# Altium footprint library Inductor_SMD.PcbLib: 259 footprints (part 14 of 17)
Each footprint in its own frame and in the unit in brackets; x right, y up, seen from the top. Pads: shape width x height; smd on the part's side, far side on the other; paste and mask are expansions set on the pad; w line width, h text height; cw(c..) or ccw(c..) is an arc to the next point about the centre after c.
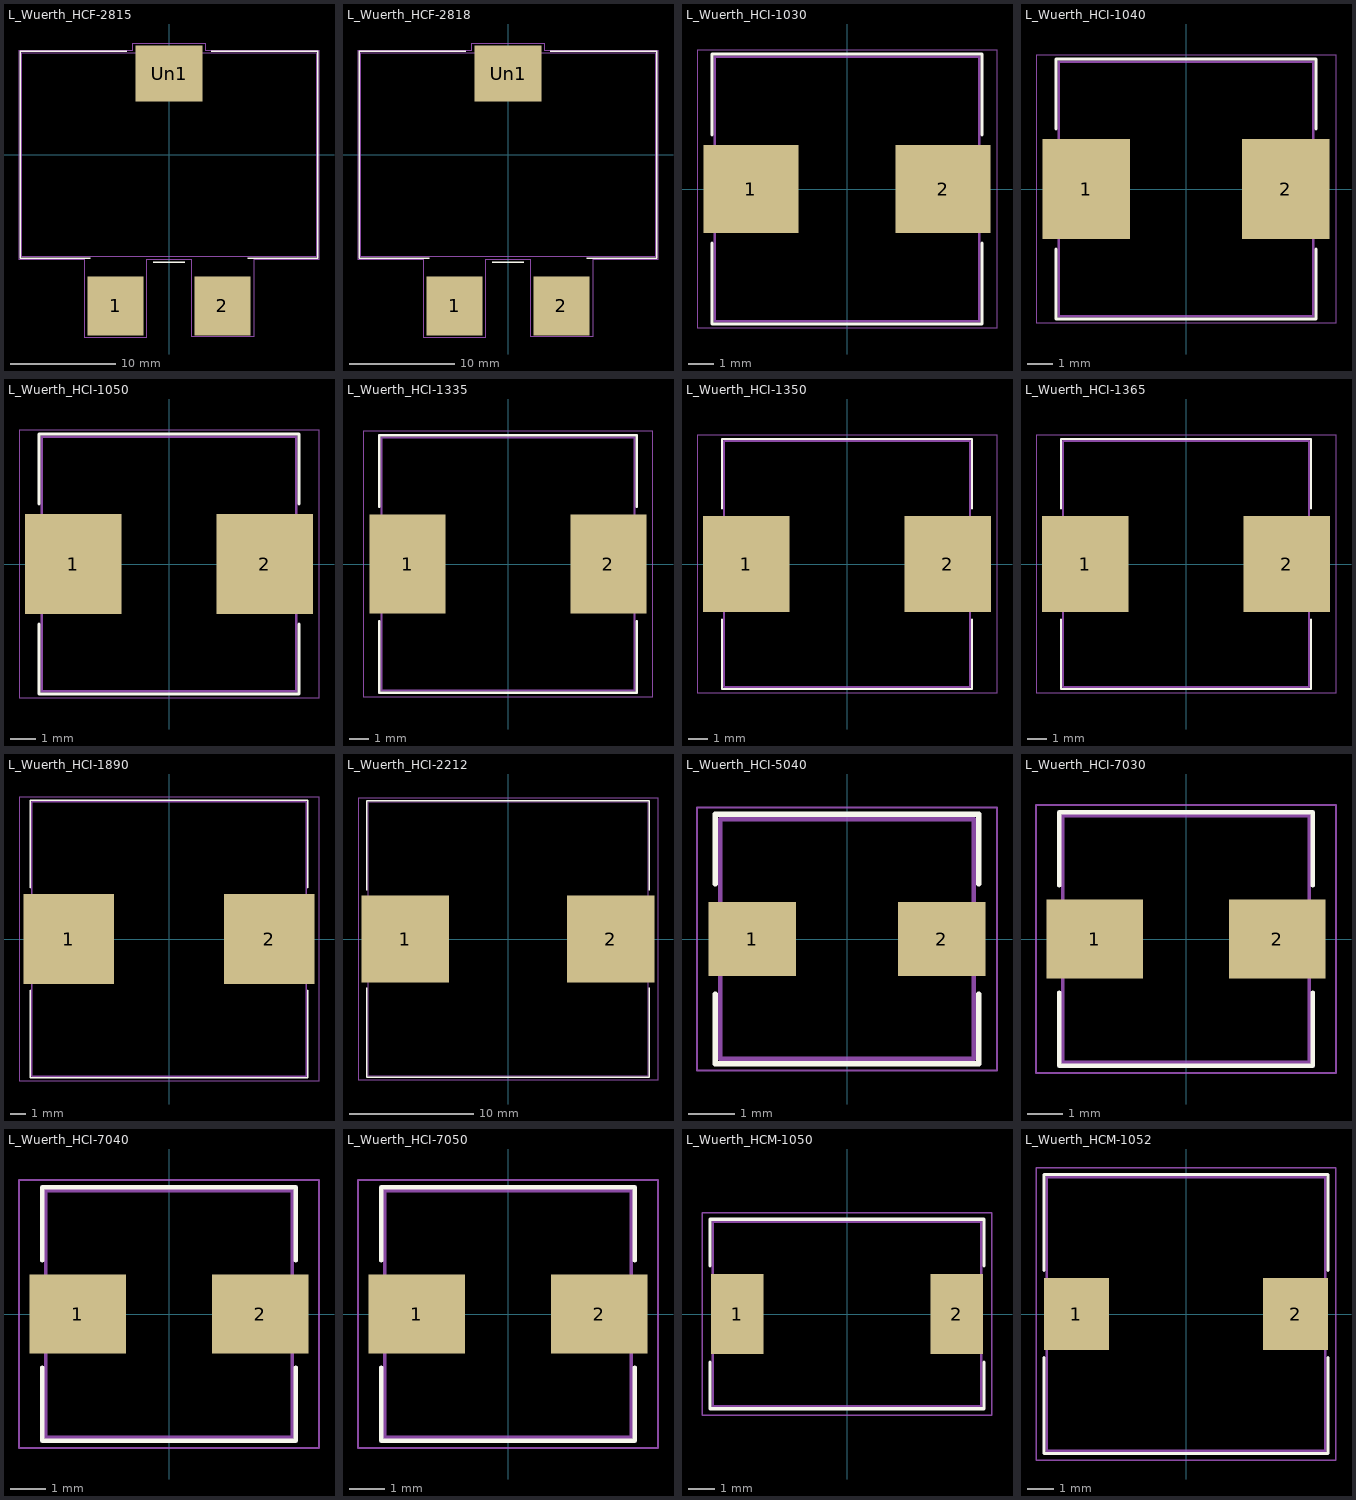
[diagram p13: the footprints below, top view; thin cyan lines are the x and y axes]

## L_Wuerth_HCF-2815 [mm]
pads (3):
  rect 5.33x5.59 smd: 1(-5.075,-14.355) 2(5.075,-14.355)
  rect 6.36x5.28 smd: Un1(0,7.72)
F.SilkS:
  lines w0.12: -7.5,-9.85 -14.15,-9.85 -14.15,9.85 -4,9.85 ; -1.5,-10.2 1.5,-10.2 ; 4,9.85 14.15,9.85 14.15,-9.85 7.5,-9.85
F.CrtYd:
  lines w0.05: -14.25,-9.95 -14.25,9.95 -3.43,9.95 -3.43,10.61 3.43,10.61 3.43,9.95 14.25,9.95 14.25,-9.95 8.05,-9.95 8.05,-17.3 2.15,-17.3 2.15,-9.95 -2.16,-9.95 -2.16,-17.4 -8,-17.4 -8,-9.95 -14.25,-9.95
F.Fab:
  lines w0.1: -14,-9.7 -14,9.7 14,9.7 14,-9.7 -14,-9.7
  text "'.Designator'" at -4.047,-2.84 h1

## L_Wuerth_HCF-2818 [mm]
pads (3):
  rect 5.33x5.59 smd: 1(-5.075,-14.355) 2(5.075,-14.355)
  rect 6.36x5.28 smd: Un1(0,7.72)
F.SilkS:
  lines w0.12: -7.5,-9.85 -14.15,-9.85 -14.15,9.85 -4,9.85 ; -1.5,-10.2 1.5,-10.2 ; 4,9.85 14.15,9.85 14.15,-9.85 7.5,-9.85
F.CrtYd:
  lines w0.05: -14.25,-9.95 -8,-9.95 -8,-17.4 -2.16,-17.4 -2.16,-9.95 2.15,-9.95 2.15,-17.3 8.05,-17.3 8.05,-9.95 14.25,-9.95 14.25,9.95 3.43,9.95 3.43,10.61 -3.43,10.61 -3.43,9.95 -14.25,9.95 -14.25,-9.95
F.Fab:
  lines w0.1: -14,-9.7 14,-9.7 14,9.7 -14,9.7 -14,-9.7
  text "'.Designator'" at -4.047,-2.84 h1

## L_Wuerth_HCI-1030 [mm]
pads (2):
  rect 3.8x3.5 smd: 1(-3.85,0) 2(3.85,0)
F.SilkS:
  lines w0.12: -5.4,-2.15 -5.4,-5.4 5.4,-5.4 5.4,-2.15 ; -5.4,2.15 -5.4,5.4 5.4,5.4 5.4,2.15
F.CrtYd:
  lines w0.05: -6,-5.55 -6,5.55 6,5.55 6,-5.55 -6,-5.55
F.Fab:
  lines w0.1: -5.3,-5.3 5.3,-5.3 5.3,5.3 -5.3,5.3 -5.3,-5.3
  text "'.Designator'" at -4.047,-0.84 h1

## L_Wuerth_HCI-1040 [mm]
pads (2):
  rect 3.5x4 smd: 1(-4,0) 2(4,0)
F.SilkS:
  lines w0.12: -5.2,-2.4 -5.2,-5.2 5.2,-5.2 5.2,-2.4 ; -5.2,2.4 -5.2,5.2 5.2,5.2 5.2,2.4
F.CrtYd:
  lines w0.05: -6,-5.35 -6,5.35 6,5.35 6,-5.35 -6,-5.35
F.Fab:
  lines w0.1: -5.1,-5.1 5.1,-5.1 5.1,5.1 -5.1,5.1 -5.1,-5.1
  text "'.Designator'" at -4.047,-0.84 h1

## L_Wuerth_HCI-1050 [mm]
pads (2):
  rect 3.85x4 smd: 1(-3.825,0) 2(3.825,0)
F.SilkS:
  lines w0.12: -5.2,-2.4 -5.2,-5.2 5.2,-5.2 5.2,-2.4 ; -5.2,2.4 -5.2,5.2 5.2,5.2 5.2,2.4
F.CrtYd:
  lines w0.05: -6,-5.35 -6,5.35 6,5.35 6,-5.35 -6,-5.35
F.Fab:
  lines w0.1: -5.1,-5.1 -5.1,5.1 5.1,5.1 5.1,-5.1 -5.1,-5.1
  text "'.Designator'" at -4.047,-0.84 h1

## L_Wuerth_HCI-1335 [mm]
pads (2):
  rect 3.85x5 smd: 1(-5.075,0) 2(5.075,0)
F.SilkS:
  lines w0.12: -6.5,-2.9 -6.5,-6.5 6.5,-6.5 6.5,-2.9 ; -6.5,2.9 -6.5,6.5 6.5,6.5 6.5,2.9
F.CrtYd:
  lines w0.05: -7.3,-6.7 7.3,-6.7 7.3,6.7 -7.3,6.7 -7.3,-6.7
F.Fab:
  lines w0.1: -6.4,-6.4 6.4,-6.4 6.4,6.4 -6.4,6.4 -6.4,-6.4
  text "'.Designator'" at -4.047,-0.84 h1

## L_Wuerth_HCI-1350 [mm]
pads (2):
  rect 4.5x5 smd: 1(-5.25,0) 2(5.25,0)
F.SilkS:
  lines w0.12: -6.5,-2.9 -6.5,-6.5 6.5,-6.5 6.5,-2.9 ; -6.5,2.9 -6.5,6.5 6.5,6.5 6.5,2.9
F.CrtYd:
  lines w0.05: -7.8,-6.7 7.8,-6.7 7.8,6.7 -7.8,6.7 -7.8,-6.7
F.Fab:
  lines w0.1: -6.4,-6.4 -6.4,6.4 6.4,6.4 6.4,-6.4 -6.4,-6.4
  text "'.Designator'" at -4.047,-0.84 h1

## L_Wuerth_HCI-1365 [mm]
pads (2):
  rect 4.5x5 smd: 1(-5.25,0) 2(5.25,0)
F.SilkS:
  lines w0.12: -6.5,-2.9 -6.5,-6.5 6.5,-6.5 6.5,-2.9 ; -6.5,2.9 -6.5,6.5 6.5,6.5 6.5,2.9
F.CrtYd:
  lines w0.05: -7.8,-6.7 7.8,-6.7 7.8,6.7 -7.8,6.7 -7.8,-6.7
F.Fab:
  lines w0.1: -6.4,-6.4 6.4,-6.4 6.4,6.4 -6.4,6.4 -6.4,-6.4
  text "'.Designator'" at -4.047,-0.84 h1

## L_Wuerth_HCI-1890 [mm]
pads (2):
  rect 6x6 smd: 1(-6.65,0) 2(6.65,0)
F.SilkS:
  lines w0.12: -9.2,-3.4 -9.2,-9.2 9.2,-9.2 9.2,-3.4 ; -9.2,3.4 -9.2,9.2 9.2,9.2 9.2,3.4
F.CrtYd:
  lines w0.05: -9.95,-9.4 -9.95,9.4 9.95,9.4 9.95,-9.4 -9.95,-9.4
F.Fab:
  lines w0.1: -9.1,-9.1 -9.1,9.1 9.1,9.1 9.1,-9.1 -9.1,-9.1
  text "'.Designator'" at -4.047,-0.84 h1

## L_Wuerth_HCI-2212 [mm]
pads (2):
  rect 7x7 smd: 1(-8.25,0) 2(8.25,0)
F.SilkS:
  lines w0.12: -11.35,-3.9 -11.35,-11.1 11.35,-11.1 11.35,-3.9 ; -11.35,3.9 -11.35,11.1 11.35,11.1 11.35,3.9
F.CrtYd:
  lines w0.05: -12.05,-11.3 12.05,-11.3 12.05,11.3 -12.05,11.3 -12.05,-11.3
F.Fab:
  lines w0.1: -11.25,-11 11.25,-11 11.25,11 -11.25,11 -11.25,-11
  text "'.Designator'" at -4.047,-0.84 h1

## L_Wuerth_HCI-5040 [mm]
pads (2):
  rect 1.9x1.6 smd: 1(-2.05,0) 2(2.05,0)
F.SilkS:
  lines w0.12: -2.85,-1.2 -2.85,-2.7 2.85,-2.7 2.85,-1.2 ; -2.85,1.2 -2.85,2.7 2.85,2.7 2.85,1.2
F.CrtYd:
  lines w0.05: -3.25,-2.85 3.25,-2.85 3.25,2.85 -3.25,2.85 -3.25,-2.85
F.Fab:
  lines w0.1: -2.75,-2.6 2.75,-2.6 2.75,2.6 -2.75,2.6 -2.75,-2.6
  text "'.Designator'" at -4.047,-0.84 h1

## L_Wuerth_HCI-7030 [mm]
pads (2):
  rect 2.7x2.2 smd: 1(-2.55,0) 2(2.55,0)
F.SilkS:
  lines w0.12: -3.55,-1.5 -3.55,-3.55 3.55,-3.55 3.55,-1.5 ; -3.55,1.5 -3.55,3.55 3.55,3.55 3.55,1.5
F.CrtYd:
  lines w0.05: -4.2,-3.75 4.2,-3.75 4.2,3.75 -4.2,3.75 -4.2,-3.75
F.Fab:
  lines w0.1: -3.45,-3.45 -3.45,3.45 3.45,3.45 3.45,-3.45 -3.45,-3.45
  text "'.Designator'" at -4.047,-0.84 h1

## L_Wuerth_HCI-7040 [mm]
pads (2):
  rect 2.7x2.2 smd: 1(-2.55,0) 2(2.55,0)
F.SilkS:
  lines w0.12: -3.55,-1.5 -3.55,-3.55 3.55,-3.55 3.55,-1.5 ; -3.55,1.5 -3.55,3.55 3.55,3.55 3.55,1.5
F.CrtYd:
  lines w0.05: -4.2,-3.75 -4.2,3.75 4.2,3.75 4.2,-3.75 -4.2,-3.75
F.Fab:
  lines w0.1: -3.45,-3.45 3.45,-3.45 3.45,3.45 -3.45,3.45 -3.45,-3.45
  text "'.Designator'" at -4.047,-0.84 h1

## L_Wuerth_HCI-7050 [mm]
pads (2):
  rect 2.7x2.2 smd: 1(-2.55,0) 2(2.55,0)
F.SilkS:
  lines w0.12: -3.55,-1.5 -3.55,-3.55 3.55,-3.55 3.55,-1.5 ; -3.55,1.5 -3.55,3.55 3.55,3.55 3.55,1.5
F.CrtYd:
  lines w0.05: -4.2,-3.75 -4.2,3.75 4.2,3.75 4.2,-3.75 -4.2,-3.75
F.Fab:
  lines w0.1: -3.45,-3.45 3.45,-3.45 3.45,3.45 -3.45,3.45 -3.45,-3.45
  text "'.Designator'" at -4.047,-0.84 h1

## L_Wuerth_HCM-1050 [mm]
pads (2):
  rect 2x3.05 smd: 1(-4.175,0) 2(4.175,0)
F.SilkS:
  lines w0.12: -5.2,-1.825 -5.2,-3.6 0,-3.6 5.2,-3.6 5.2,-1.825 ; -5.2,1.825 -5.2,3.6 0,3.6 5.2,3.6 5.2,1.825
F.CrtYd:
  lines w0.05: -5.5,-3.85 5.5,-3.85 5.5,3.85 -5.5,3.85 -5.5,-3.85
F.Fab:
  lines w0.1: -5.1,-3.5 5.1,-3.5 5.1,3.5 -5.1,3.5 -5.1,-3.5
  text "'.Designator'" at -4.047,-0.84 h1

## L_Wuerth_HCM-1052 [mm]
pads (2):
  rect 2.45x2.7 smd: 1(-4.125,0) 2(4.125,0)
F.SilkS:
  lines w0.12: -5.35,-1.65 -5.35,-5.25 0,-5.25 5.35,-5.25 5.35,-1.65 ; -5.35,1.65 -5.35,5.25 0,5.25 5.35,5.25 5.35,1.65
F.CrtYd:
  lines w0.05: -5.65,-5.5 5.65,-5.5 5.65,5.5 -5.65,5.5 -5.65,-5.5
F.Fab:
  lines w0.1: -5.25,-5.15 -5.25,5.15 5.25,5.15 5.25,-5.15 -5.25,-5.15
  text "'.Designator'" at -4.047,-0.84 h1